# Altium footprint library PCBLibrary.PcbLib: 47 footprints (part 3 of 3)
Each footprint in its own frame and in the unit in brackets; x right, y up, seen from the top. Pads: shape width x height; smd on the part's side, far side on the other; paste and mask are expansions set on the pad; w line width, h text height; cw(c..) or ccw(c..) is an arc to the next point about the centre after c.
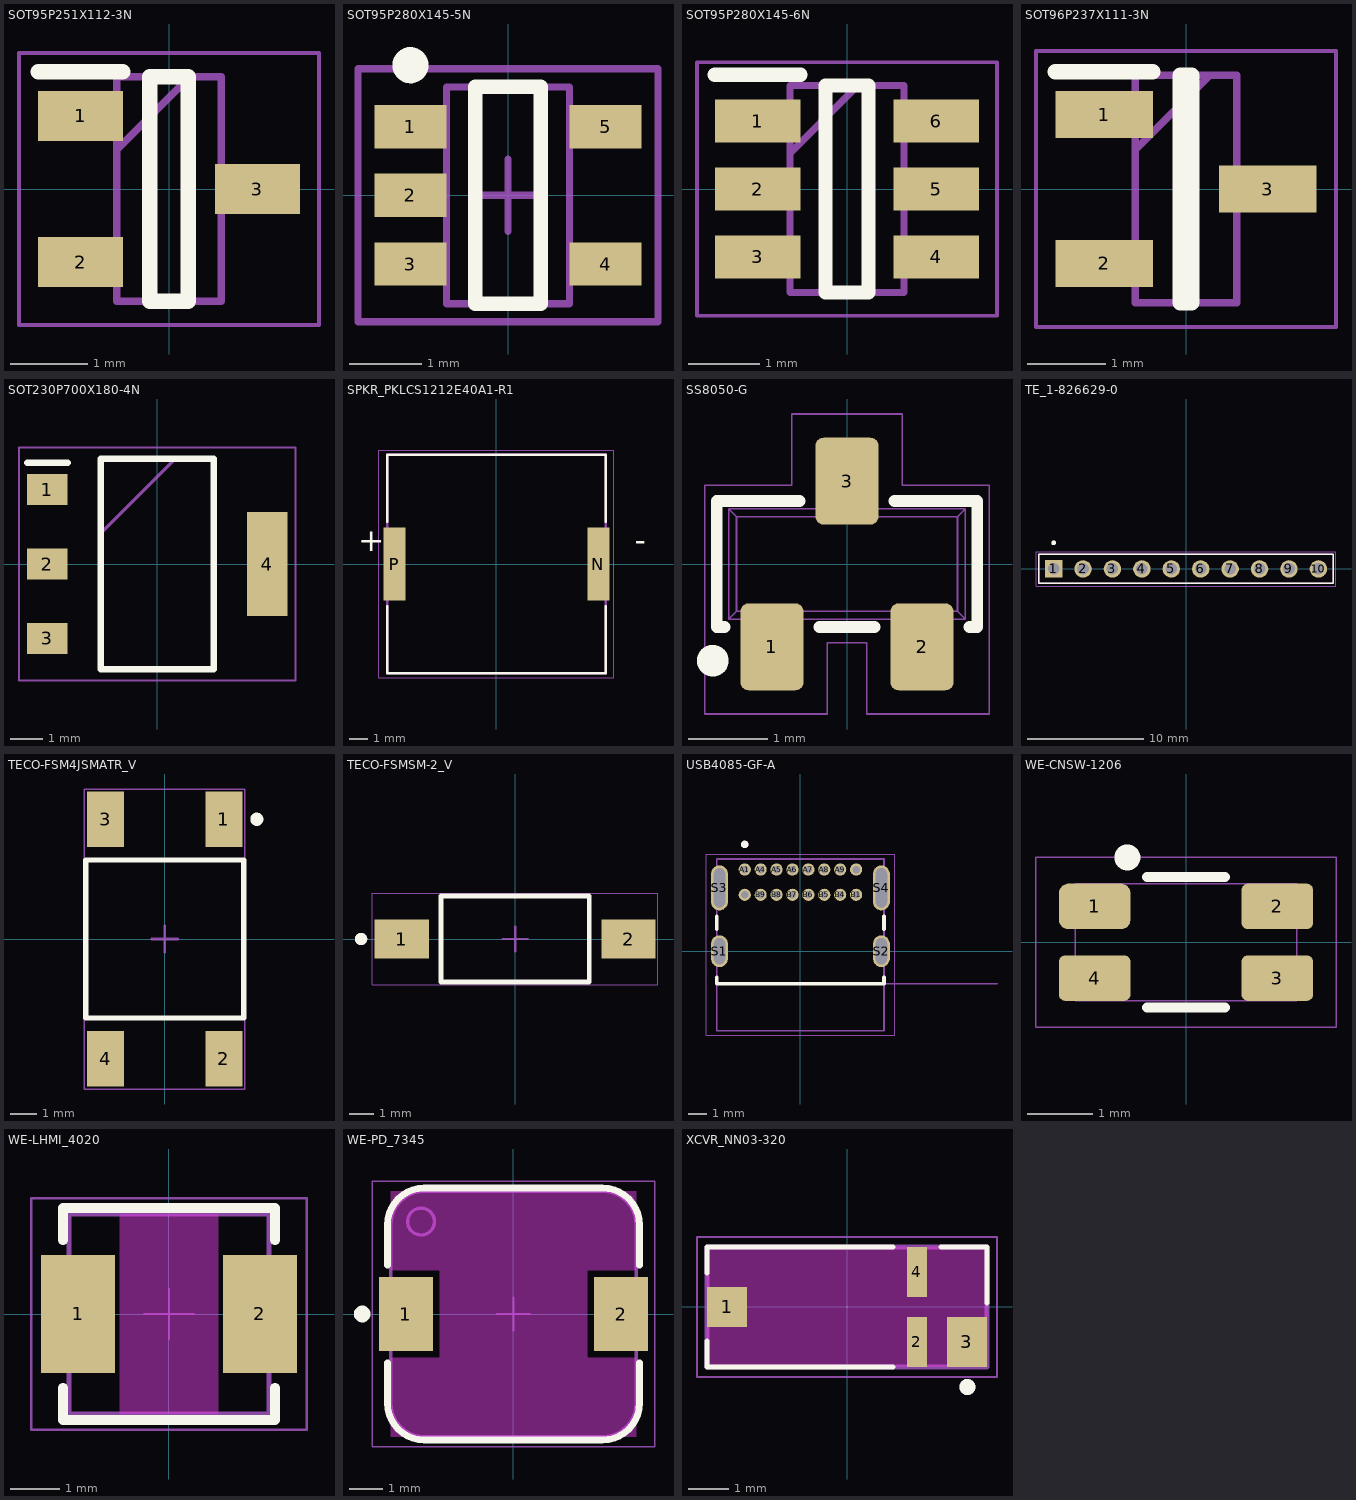
[diagram p2: the footprints below, top view; thin cyan lines are the x and y axes]

## SOT95P251X112-3N [mm]
pads (3):
  rect 1.1x0.65 smd: 1(-1.15,0.95) 2(-1.15,-0.95) 3(1.15,0)
Top Overlay:
  lines w0.2: -1.7,1.525 -0.6,1.525 ; -0.25,-1.46 -0.25,1.46 0.25,1.46 0.25,-1.46 -0.25,-1.46
Mechanical 15:
  lines w0.1: -0.68,0.51 0.27,1.46 ; -0.68,-1.46 -0.68,1.46 0.68,1.46 0.68,-1.46 -0.68,-1.46
Top 3D Body:
  lines w0.05: -1.95,-1.77 -1.95,1.77 1.95,1.77 1.95,-1.77 -1.95,-1.77
3D body "FDV304P.stp": height 1.12, standoff 0, extent -1.255,-1.46 1.255,1.46

## SOT95P280X145-5N [mm] "SOT23, 5-Leads, Body 2,90x2,80mm, Pitch 0,95mm, IPC Medium Density"
height 1.45
pads (5):
  rect 1x0.6 smd: 1(-1.35,0.95) 2(-1.35,0) 3(-1.35,-0.95) 4(1.35,-0.95) 5(1.35,0.95)
Top Overlay:
  circle w0.25: c-1.35,1.8 r0.125
  lines w0.2: -0.45,-1.5 -0.45,1.5 0.45,1.5 0.45,-1.5 -0.45,-1.5
Top Assembly:
  lines w0.1: -0.85,-1.5 0.85,-1.5 0.85,1.5 -0.85,1.5 -0.85,-1.5
Top Courtyard:
  lines w0.1: -0.5,0 0.5,0 ; 0,-0.5 0,0.5 ; -2.075,-1.75 2.075,-1.75 2.075,1.75 -2.075,1.75 -2.075,-1.75
Top Designator:
  text ".Designator" at 0.333,-4.998 h1
3D body "SOT95P280X145-5N.step": height 1.45, standoff 0, extent -1.45,-1.5 1.45,1.5

## SOT95P280X145-6N [mm]
pads (6):
  rect 1.2x0.6 smd: 1(-1.25,0.95) 2(-1.25,0) 3(-1.25,-0.95) 4(1.25,-0.95) 5(1.25,0) 6(1.25,0.95)
Top Overlay:
  lines w0.2: -1.85,1.6 -0.65,1.6 ; -0.3,-1.45 -0.3,1.45 0.3,1.45 0.3,-1.45 -0.3,-1.45
Mechanical 15:
  lines w0.1: -0.8,0.5 0.15,1.45 ; -0.8,-1.45 -0.8,1.45 0.8,1.45 0.8,-1.45 -0.8,-1.45
Top 3D Body:
  lines w0.05: -2.1,-1.775 -2.1,1.775 2.1,1.775 2.1,-1.775 -2.1,-1.775
3D body "LMR50410Y3FQDBVRQ1.stp": height 1.2, standoff 0, extent -1.4,-1.45 1.4,1.45

## SOT96P237X111-3N [mm]
pads (3):
  rect 1.25x0.6 smd: 1(-1.05,0.955) 2(-1.05,-0.955) 3(1.05,0)
Top Overlay:
  lines w0.2: -1.675,1.505 -0.425,1.505 ; -0.075,-1.46 -0.075,1.46 0.075,1.46 0.075,-1.46 -0.075,-1.46
Mechanical 15:
  lines w0.1: -0.65,0.505 0.305,1.46 ; -0.65,-1.46 -0.65,1.46 0.65,1.46 0.65,-1.46 -0.65,-1.46
Top 3D Body:
  lines w0.05: -1.925,-1.77 -1.925,1.77 1.925,1.77 1.925,-1.77 -1.925,-1.77
3D body "2N7002KT1G.stp": height 1.11, standoff 0, extent -1.185,-1.46 1.185,1.46

## SOT230P700X180-4N [mm]
pads (4):
  rect 1.25x0.95 smd: 1(-3.4,2.3) 2(-3.4,0) 3(-3.4,-2.3)
  rect 1.25x3.2 smd: 4(3.4,0)
Top Overlay:
  lines w0.2: -4.025,3.125 -2.775,3.125 ; -1.75,-3.25 -1.75,3.25 1.75,3.25 1.75,-3.25 -1.75,-3.25
Mechanical 15:
  lines w0.1: -1.75,0.95 0.55,3.25 ; -1.75,-3.25 -1.75,3.25 1.75,3.25 1.75,-3.25 -1.75,-3.25
Top 3D Body:
  lines w0.05: -4.275,-3.6 -4.275,3.6 4.275,3.6 4.275,-3.6 -4.275,-3.6
3D body "NCP1117IST33T3G.stp": height 1.8, standoff 0, extent -3.6,-3.25 3.4,3.25

## SPKR_PKLCS1212E40A1-R1 [mm]
pads (2):
  rect 1.2x4 smd: N(5.6,0) P(-5.6,0)
Top Overlay:
  lines w0.127: -6,-2.32 -6,-6 6,-6 6,-2.32 ; -6,2.32 -6,6 6,6 6,2.32
  text "+" at -7.6,0.7 h1.27
  text "-" at 7.6,0.7 h1.27
Mechanical 13:
  lines w0.127: -6,-6 6,-6 6,6 -6,6 -6,-6
  text "+" at -7.6,0.7 h1.27
  text "-" at 7.6,0.7 h1.27
Mechanical 15:
  lines w0.05: -6.45,-6.25 6.45,-6.25 6.45,6.25 -6.45,6.25 -6.45,-6.25
3D body "step_temp.STEP": height 3, standoff 0, extent -6,-6 6,6

## SS8050-G [mm]
pads (3):
  rrect25% 0.8x1.1 smd paste+0 mask+0.075: 1(-0.95,-1.05) 2(0.95,-1.05) 3(0,1.05)
Top Overlay:
  circle w0.25: c-1.7,-1.225 r0.075
  lines w0.15: -1.55,-0.8 -1.65,-0.8 -1.65,0.8 -0.6,0.8 ; -0.35,-0.8 0.35,-0.8 ; 0.6,0.8 1.65,0.8 1.65,-0.8 1.55,-0.8
Mechanical 9:
  text "SOT-23" at -1.416,-0.25 h0.5
Mechanical 15:
  lines w0.02: -1.8,-1.9 -1.8,1 -0.7,1 -0.7,1.9 0.7,1.9 0.7,1 1.8,1 1.8,-1.9 0.25,-1.9 0.25,-1 -0.25,-1 -0.25,-1.9 -1.8,-1.9
Mechanical 17:
  lines w0.02: -1.15,-0.9 -0.75,-0.9 ; -1.15,-0.7 -1.15,-1.3 -0.75,-1.3 -0.75,-0.7 ; -0.2,0.7 -0.2,1.3 0.2,1.3 0.2,0.7 ; -0.2,0.9 0.2,0.9 ; 0.75,-0.9 1.15,-0.9 ; 0.75,-0.7 0.75,-1.3 1.15,-1.3 1.15,-0.7 ; -1.5,-0.7 -1.5,0.7 ; -1.5,-0.7 1.5,-0.7 ; -1.5,-0.7 -1.4,-0.6 ; -1.5,0.7 1.5,0.7 ; -1.5,0.7 -1.4,0.6 ; -1.4,-0.6 -1.4,0.6 ; -1.4,-0.6 1.4,-0.6 ; -1.4,0.6 1.4,0.6 ; 1.4,-0.6 1.4,0.6 ; 1.4,-0.6 1.5,-0.7 ; 1.4,0.6 1.5,0.7 ; 1.4,0.6 1.4,0.6 ; 1.5,-0.7 1.5,0.7
3D body: height 1, standoff 0.1, extent -1.5,-0.7 1.5,0.7
3D body: height 0.7, standoff 0.55, extent -1.15,-0.85 -0.75,-0.7
3D body: height 0.15, standoff 0, extent -1.15,-1.3 -0.75,-1
3D body: height 0.7, standoff 0, extent -1.15,-1 -0.75,-0.85
3D body: height 0.7, standoff 0, extent 0.75,-1 1.15,-0.85
3D body: height 0.15, standoff 0, extent 0.75,-1.3 1.15,-1
3D body: height 0.7, standoff 0.55, extent 0.75,-0.85 1.15,-0.7
3D body: height 0.7, standoff 0, extent -0.2,0.85 0.2,1
3D body: height 0.15, standoff 0, extent -0.2,1 0.2,1.3
3D body: height 0.7, standoff 0.55, extent -0.2,0.7 0.2,0.85
3D body: height 1.1, standoff 1, extent -1.4,-0.6 1.4,0.6

## TE_1-826629-0 [mm]
pads (10):
  rect 1.508x1.508 hole 1: 1(-11.43,0)
  round 1.508 hole 1: 2(-8.89,0) 3(-6.35,0) 4(-3.81,0) 5(-1.27,0) 6(1.27,0) 7(3.81,0) 8(6.35,0) 9(8.89,0) 10(11.43,0)
Top Overlay:
  circle w0.2: c-11.43,2.25 r0.1
  lines w0.127: -12.7,-1.25 12.7,-1.25 12.7,1.25 -12.7,1.25 -12.7,-1.25
Mechanical 13:
  circle w0.2: c-11.43,2.25 r0.1
  lines w0.127: -12.7,-1.25 12.7,-1.25 12.7,1.25 -12.7,1.25 -12.7,-1.25
Mechanical 15:
  lines w0.05: -12.95,-1.5 12.95,-1.5 12.95,1.5 -12.95,1.5 -12.95,-1.5

## TECO-FSM4JSMATR_V [mm] "SMD, 4-Leads, Body 6x6mm, Pitch 4.5mm"
height 5.23
pads (4):
  rect 1.4x2.1 smd: 1(2.25,4.55) 2(2.25,-4.55) 3(-2.25,4.55) 4(-2.25,-4.55)
Top Overlay:
  circle w0.25: c3.5,4.55 r0.125
  lines w0.2: -3,-3 3,-3 3,3 -3,3 -3,-3
Mechanical 13:
  lines w0.1: -3,-3 -3,3 3,3 3,-3 -3,-3
Mechanical 15:
  lines w0.05: -3.05,-5.7 -3.05,5.7 3.05,5.7 3.05,-5.7 -3.05,-5.7
  lines w0.1: -0.5,0 0.5,0 ; 0,-0.5 0,0.5
3D body "c-4-1437565-2-s-3d.stp": height 5.08, standoff 0, extent -3,-5 3,5

## TECO-FSMSM-2_V [mm] "SMD, 2-Leads, Body 6x3.5mm, Pitch 9.19mm"
height 4.57
pads (2):
  rect 2.2x1.6 smd: 1(-4.595,0)
  rect 2.18x1.6 smd: 2(4.595,0)
Top Overlay:
  circle w0.25: c-6.245,0 r0.125
  lines w0.2: -3,-1.75 3,-1.75 3,1.75 -3,1.75 -3,-1.75
Mechanical 13:
  lines w0.1: -3,-1.75 -3,1.75 3,1.75 3,-1.75 -3,-1.75
Mechanical 15:
  lines w0.05: -5.795,-1.85 -5.795,1.85 5.785,1.85 5.785,-1.85 -5.795,-1.85
  lines w0.1: -0.5,0 0.5,0 ; 0,-0.5 0,0.5
3D body "c-1437566-3-c-3d.stp": height 4.4, standoff -0.02, extent -4.985,-1.75 4.984,1.75

## USB4085-GF-A [mm]
pads (20):
  round 0.65 hole 0.4: A1(-2.975,4.36) A4(-2.125,4.36) A5(-1.275,4.36) A6(-0.425,4.36) A7(0.425,4.36) A8(1.275,4.36) A9(2.125,4.36) A12(2.975,4.36) B1(2.975,3.01) B4(2.125,3.01) B5(1.275,3.01) B6(0.425,3.01) B7(-0.425,3.01) B8(-1.275,3.01) B9(-2.125,3.01) B12(-2.975,3.01)
  oval 0.9x1.7 hole 0.6 slot 1.4 at 90 deg: S1(-4.325,0) S2(4.325,0)
  oval 0.9x2.4 hole 0.6 slot 2.1 at 90 deg: S3(-4.325,3.38) S4(4.325,3.38)
Top Overlay:
  circle w0.2: c-2.975,5.7 r0.1
  lines w0.2: -4.47,-1.39 -4.47,-1.74 4.47,-1.74 4.47,-1.39 ; -4.47,1.17 -4.47,1.85 ; 4.47,1.17 4.47,1.85
Mechanical 13:
  circle w0.2: c-2.975,5.7 r0.1
  lines w0.1: 10.5,-1.74 -4.47,-1.74 ; -4.47,-1.74 -4.47,4.92 4.47,4.92 4.47,-4.25 -4.47,-4.25 -4.47,-1.74
  text "PCB EDGE" at 5.315,-1.57 h0.81
Mechanical 15:
  lines w0.05: -5.025,-4.5 -5.025,5.17 5.025,5.17 5.025,-4.5 -5.025,-4.5
3D body "step_temp.STEP": height 3.46, standoff -2.1, extent -4.47,-4.25 4.47,4.92

## WE-CNSW-1206 [mm]
pads (4):
  rrect42% 1.1x0.7 smd paste+0 mask+0.075: 1(-1.4,0.55)
  rrect28% 1.1x0.7 smd paste+0 mask+0.075: 2(1.4,0.55) 3(1.4,-0.55) 4(-1.4,-0.55)
Top Overlay:
  circle w0.2: c-0.9,1.3 r0.1
  lines w0.15: -0.6,-1 0.6,-1 ; -0.6,1 0.6,1
Mechanical 9:
  text "'.PN'" at -0.916,-0.292 h0.5
Mechanical 15:
  lines w0.02: -2.3,-1.3 -2.3,1.3 2.3,1.3 2.3,-1.3 -2.3,-1.3
Mechanical 17:
  circle w0.15: c-1.2,0.525 r0.175
  lines w0.02: -1.7,-0.9 -1.7,0.9 1.7,0.9 1.7,-0.9 -1.7,-0.9
Mechanical 19:
  lines w0.02: -1.7,-0.9 -1.7,-0.3 -1.1,-0.3 -1.1,-0.9 -1.7,-0.9 ; -1.7,0.3 -1.1,0.3 -1.1,0.9 -1.7,0.9 -1.7,0.3 ; 1.1,-0.9 1.7,-0.9 1.7,-0.3 1.1,-0.3 1.1,-0.9 ; 1.1,0.3 1.7,0.3 1.7,0.9 1.1,0.9 1.1,0.3
3D body: height 1.5, standoff 0.4, extent 0.4,-1 0.6,-0.9
3D body: height 1.5, standoff 0.4, extent -0.2,-1 0,-0.9
3D body: height 1.5, standoff 0.4, extent 0,0.9 0.2,1
3D body: height 1.5, standoff 0.4, extent -0.6,0.9 -0.4,1
3D body: height 0.5, standoff 0.4, extent 0,-0.9 0.6,0.9
3D body: height 0.5, standoff 0.4, extent -0.6,-0.9 0,0.9
3D body: height 1.5, standoff 0.5, extent -1.7,-0.9 1.7,0.9
3D body: height 0.1, standoff 0, extent 1.1,0.3 1.7,0.9
3D body: height 0.1, standoff 0, extent 1.1,-0.9 1.7,-0.3
3D body: height 0.1, standoff 0, extent -1.7,0.3 -1.1,0.9
3D body: height 0.1, standoff 0, extent -1.7,-0.9 -1.1,-0.3
3D body: height 1.5, standoff 0.1, extent -1.7,0.3 -1.1,0.9
3D body: height 1.5, standoff 0.1, extent -1.7,-0.9 -1.1,-0.3
3D body: height 1.5, standoff 0.1, extent 1.1,0.3 1.7,0.9
3D body: height 1.5, standoff 0.1, extent 1.1,-0.9 1.7,-0.3
3D body: height 2.1, standoff 1.5, extent -1.8,-1 1.8,1

## WE-LHMI_4020 [mm] "SMT Power Inductor, 2-Leads, body 4.06x4.06mm"
height 1.8
pads (2):
  rect 1.5x2.4 smd: 1(-1.85,0) 2(1.85,0)
Top Layer keep-out:
  region: -1,2.03 1,2.03 1,-2.03 -1,-2.03
Top Overlay:
  lines w0.2: -2.155,-1.5 -2.155,-2.155 2.155,-2.155 2.155,-1.5 ; -2.155,1.5 -2.155,2.155 2.155,2.155 2.155,1.5
Top Component Outline:
  lines w0.1: -2.03,-2.03 -2.03,2.03 2.03,2.03 2.03,-2.03 -2.03,-2.03
Top Component Center:
  lines w0.05: -0.5,0 0.5,0 ; 0,-0.5 0,0.5
Top Courtyard:
  lines w0.05: -2.8,-2.355 -2.8,2.355 2.8,2.355 2.8,-2.355 -2.8,-2.355
Top Designator:
  text ".Designator" at -4.998,-0.333 h1
3D body "WE-LHMI_4020.stp": height 1.8, standoff 0, extent -2.225,-2.03 2.225,2.03

## WE-PD_7345 [mm] "SMT Shielded Power Inductor, 2-leads, body 7.3x7.3mm"
height 4.5
pads (2):
  rect 1.6x2.2 smd: 1(-3.2,0) 2(3.2,0)
Top Layer keep-out:
  region: -3.65,-3.65 -3.65,-1.3 -2.2,-1.3 -2.2,1.3 -3.65,1.3 -3.65,3.65 3.65,3.65 3.65,1.3 2.2,1.3 2.2,-1.3 3.65,-1.3 3.65,-3.65
Top Overlay:
  circle w0.25: c-4.5,0 r0.125
  lines w0.2: -3.75,-1.45 -3.75,-2.65 ccw(c-2.65,-2.65) -2.65,-3.75 2.65,-3.75 ccw(c2.65,-2.65) 3.75,-2.65 3.75,-1.45 ; -3.75,1.45 -3.75,2.65 cw(c-2.65,2.65) -2.65,3.75 2.65,3.75 cw(c2.65,2.65) 3.75,2.65 3.75,1.45
Top Component Outline:
  circle w0.1: c-2.75,2.75 r0.4
  lines w0.1: -3.65,-2.65 ccw(c-2.65,-2.65) -2.65,-3.65 2.65,-3.65 ccw(c2.65,-2.65) 3.65,-2.65 3.65,2.65 ccw(c2.65,2.65) 2.65,3.65 -2.65,3.65 ccw(c-2.65,2.65) -3.65,2.65 -3.65,-2.65
Top 3D Body:
  circle w0.1: c-2.75,2.75 r0.4
  lines w0.1: -3.65,-2.65 ccw(c-2.65,-2.65) -2.65,-3.65 2.65,-3.65 ccw(c2.65,-2.65) 3.65,-2.65 3.65,2.65 ccw(c2.65,2.65) 2.65,3.65 -2.65,3.65 ccw(c-2.65,2.65) -3.65,2.65 -3.65,-2.65
Top Courtyard:
  lines w0.05: -0.5,0 0.5,0 ; 0,-0.5 0,0.5 ; -4.2,-3.95 4.2,-3.95 4.2,3.95 -4.2,3.95 -4.2,-3.95
Top Designator:
  text ".Designator" at -7.498,-0.5 h1.5
3D body "WE-PD_7345_m-base_744777xxx.stp": height 3.91, standoff -0.01, extent -3.65,-3.65 3.65,3.65

## XCVR_NN03-320 [mm]
pads (4):
  rect 1x1 smd: 1(-3,0)
  rect 0.5x1.25 smd: 2(1.75,-0.875) 4(1.75,0.875)
  rect 1x1.25 smd: 3(3,-0.875)
Top Overlay:
  circle w0.2: c3.01,-2 r0.1
  lines w0.127: -3.5,-0.85 -3.5,-1.5 1.15,-1.5 ; -3.5,0.85 -3.5,1.5 1.15,1.5 ; 2.35,1.5 3.5,1.5 3.5,0.1
Keep-Out Layer:
  region: 3.5,-0.25 2.5,-0.25 2.5,-1.5 2,-1.5 2,-0.25 1.5,-0.25 1.5,-1.5 -3.5,-1.5 -3.5,-0.5 -2.5,-0.5 -2.5,0.5 -3.5,0.5 -3.5,1.5 1.5,1.5 1.5,0.25 2,0.25 2,1.5 3.5,1.5
Mechanical 13:
  circle w0.2: c3.01,-2 r0.1
  lines w0.127: -3.5,-1.5 -3.5,1.5 3.5,1.5 3.5,-1.5 -3.5,-1.5
Mechanical 15:
  lines w0.05: -3.75,-1.75 3.75,-1.75 3.75,1.75 -3.75,1.75 -3.75,-1.75
3D body "step_temp.STEP": height 2.02, standoff 0, extent -3.5,-1.5 3.5,1.5